# EAGLE library part TEXAS_INSTRUMENTS-MICROCONTROLLER-MSP430FR2512IPW1 (library Module_ICs)
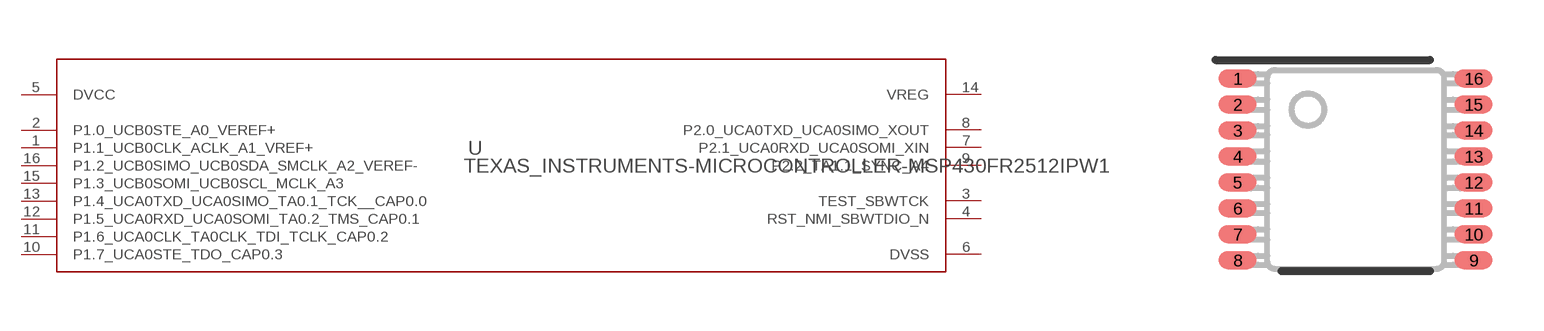
[diagram p36: symbol with the pads of TEXAS_INSTRUMENTS-MICROCONTROLLER-MSP430FR2512IPW1/MUX/DEMUX-SN74CB3Q3257PWR/DIGITAL_QUAD_SPDT-TS3L110PWR; footprint TEXAS_INSTRUMENTS-MICROCONTROLLER-MSP430FR2512IPW1/MUX/DEMUX-SN74CB3Q3257PWR/DIGITAL_QUAD_SPDT-TS3L110PWR]

Designator prefix U

## TEXAS_INSTRUMENTS-MICROCONTROLLER-MSP430FR2512IPW1  [TEXAS_INSTRUMENTS-MICROCONTROLLER-MSP430FR2512IPW1/MUX/DEMUX-SN74CB3Q3257PWR/DIGITAL_QUAD_SPDT-TS3L110PWR]
1  P1.1_UCB0CLK_ACLK_A1_VREF+
2  P1.0_UCB0STE_A0_VEREF+
3  TEST_SBWTCK  in
4  RST_NMI_SBWTDIO_N
5  DVCC  pwr
6  DVSS  pwr
7  P2.1_UCA0RXD_UCA0SOMI_XIN
8  P2.0_UCA0TXD_UCA0SIMO_XOUT
9  P2.2_TA1.1_SYNC_A4
10  P1.7_UCA0STE_TDO_CAP0.3
11  P1.6_UCA0CLK_TA0CLK_TDI_TCLK_CAP0.2
12  P1.5_UCA0RXD_UCA0SOMI_TA0.2_TMS_CAP0.1
13  P1.4_UCA0TXD_UCA0SIMO_TA0.1_TCK__CAP0.0
14  VREG  pwr
15  P1.3_UCB0SOMI_UCB0SCL_MCLK_A3
16  P1.2_UCB0SIMO_UCB0SDA_SMCLK_A2_VEREF-

## Footprint TEXAS_INSTRUMENTS-MICROCONTROLLER-MSP430FR2512IPW1/MUX/DEMUX-SN74CB3Q3257PWR/DIGITAL_QUAD_SPDT-TS3L110PWR (pad centres in mm)
smd 0.95 x 0.45: 1 -2.95,2.275; 2 -2.95,1.625; 3 -2.95,0.975; 4 -2.95,0.325; 5 -2.95,-0.325; 6 -2.95,-0.975; 7 -2.95,-1.625; 8 -2.95,-2.275; 9 2.95,-2.275; 10 2.95,-1.625; 11 2.95,-0.975; 12 2.95,-0.325; 13 2.95,0.325; 14 2.95,0.975; 15 2.95,1.625; 16 2.95,2.275